# Altium footprint library 羽毛球团队.PcbLib: 75 footprints (part 2 of 5)
Each footprint in its own frame and in the unit in brackets; x right, y up, seen from the top. Pads: shape width x height; smd on the part's side, far side on the other; paste and mask are expansions set on the pad; w line width, h text height; cw(c..) or ccw(c..) is an arc to the next point about the centre after c.
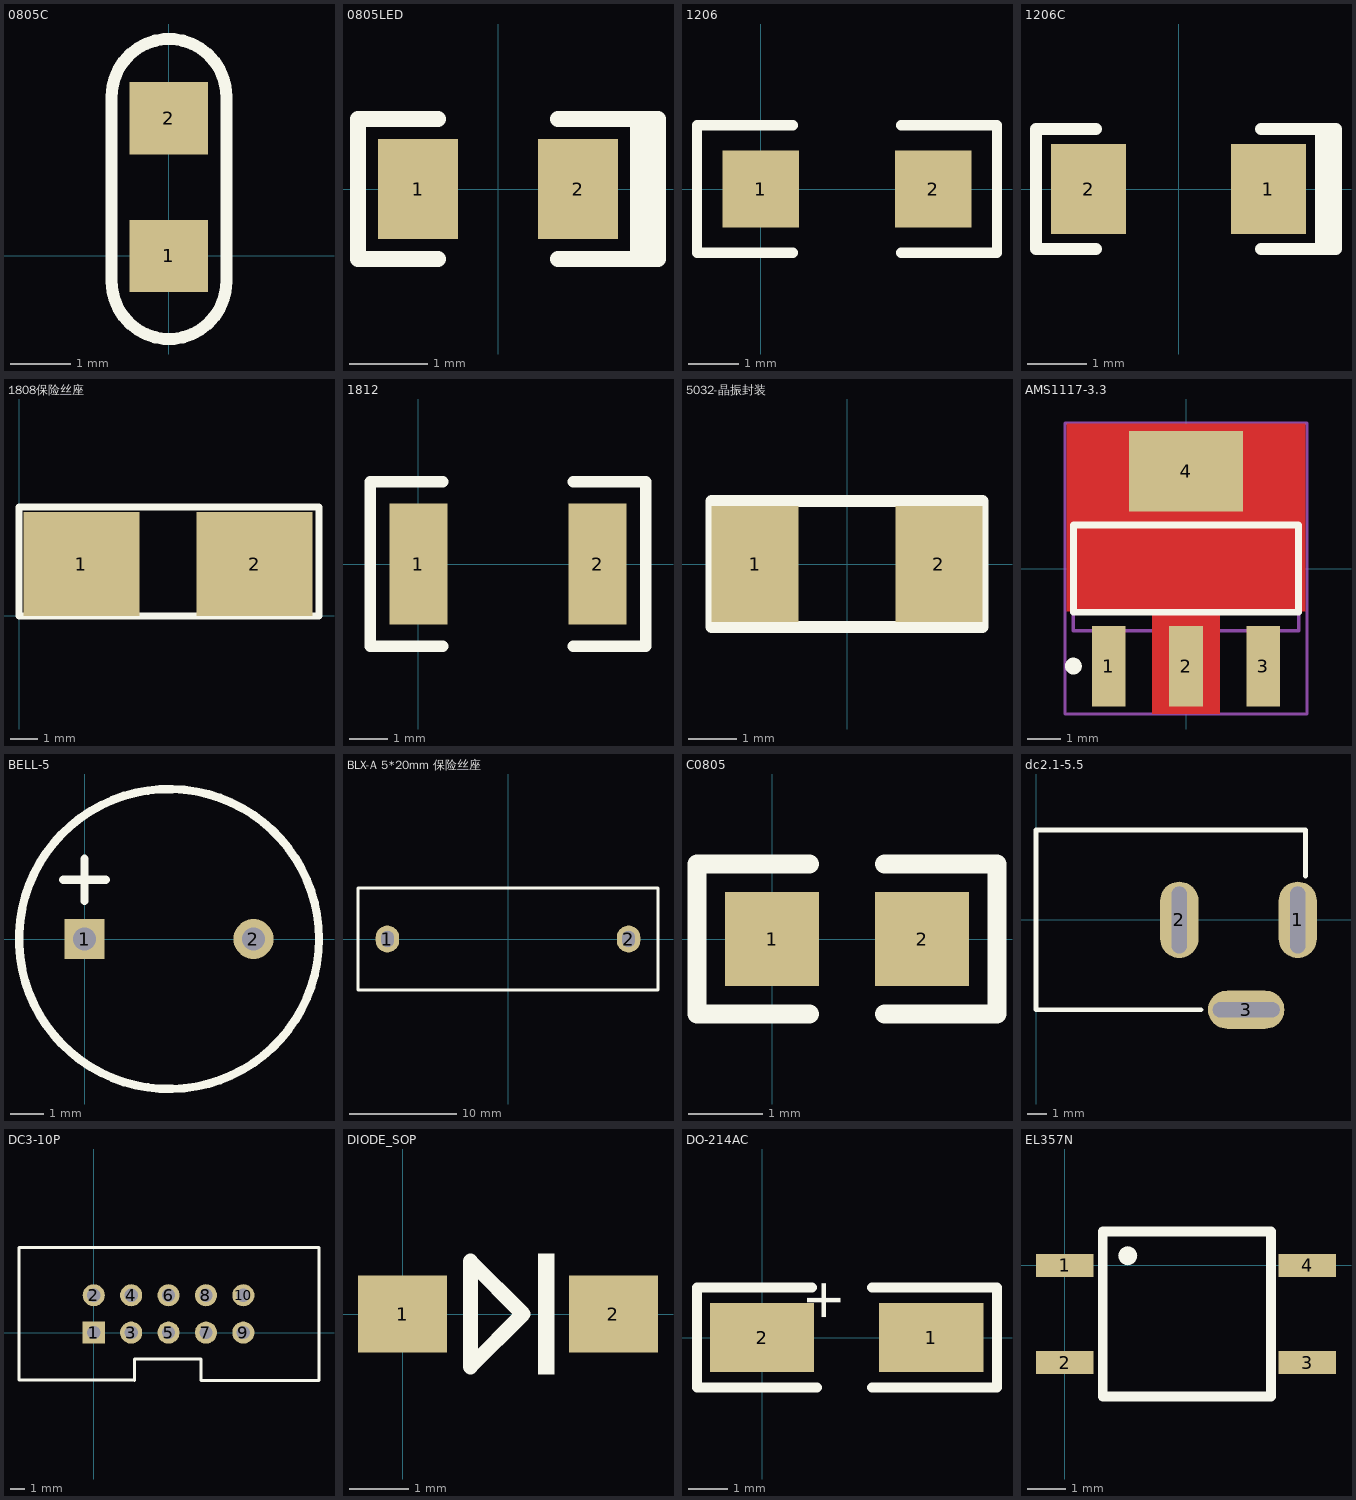
[diagram p1: the footprints below, top view; thin cyan lines are the x and y axes]

## 0805C [mm]
pads (2):
  rect 1.3x1.2 smd: 1(0.004,-0.004) 2(0.004,2.282)
Top Overlay:
  lines w0.2: -0.943,-0.432 ccw(c0.007,-0.432) 0.957,-0.432 0.957,2.643 ccw(c0.007,2.643) -0.943,2.643 -0.943,-0.432

## 0805LED [mil]
pads (2):
  rect 40x50 smd: 1(-40,0) 2(40,0)
Top Overlay:
  lines w7.87: -70,-35 -30,-35 ; -70,35 -30,35 ; 30,-35 80,-35 ; 30,35 80,35
  lines w8: -70,-35 -70,35 ; 70,-35 70,35 ; 75,-35 75,35 ; 80,-35 80,35

## 1206 [mil]
pads (2):
  rect 60x60 smd: 1(0,0) 2(135,0)
Top Overlay:
  lines w8: 25,-50 -50,-50 -50,50 25,50 ; 110,-50 185,-50 185,50 110,50

## 1206C [mil]
height 68.9
pads (2):
  rect 50x60 smd: 1(60,0) 2(-60,0)
Top Overlay:
  lines w7.87: -95,-40 -55,-40 ; -95,40 -55,40 ; 55,-40 105,-40 ; 55,40 105,40
  lines w8: -95,-40 -95,40 ; 95,-40 95,40 ; 100,-40 100,40 ; 105,-40 105,40

## 1808保险丝座 [mm]
pads (2):
  rect 4.25x3.82 smd: 1(2.286,1.905) 2(8.636,1.905)
Top Overlay:
  lines w0.254: 0,0 11,0 11,4 0,4 0,0

## 1812 [mil]
pads (2):
  rect 60x125 smd: 1(0,0) 2(185,0)
Top Overlay:
  lines w12: 25,-85 -50,-85 -50,85 25,85 ; 160,-85 235,-85 235,85 160,85

## 5032-晶振封装 [mm]
height 1.75
pads (2):
  rect 1.8x2.4 smd: 1(-1.9,0) 2(1.9,0)
Top Overlay:
  lines w0.254: -2.8,-1.3 -2.8,1.3 2.8,1.3 2.8,-1.3 -2.8,-1.3

## AMS1117-3.3 [mm]
pads (4):
  rect 1x2.4 smd: 1(-2.3,-2.9) 2(0,-2.9) 3(2.3,-2.9)
  rect 3.4x2.4 smd: 4(0,2.9)
Top Layer:
  rectangle: -1.016,-4.318 1.016,-1.27
  rectangle: -3.556,-1.27 3.556,4.318
Top Overlay:
  circle w0.25: c-3.35,-2.9 r0.125
  lines w0.2: -3.35,-1.3 -3.35,1.3 3.35,1.3 3.35,-1.3 -3.35,-1.3
Mechanical 13:
  lines w0.1: -3.35,-1.85 -3.35,1.85 3.35,1.85 3.35,-1.85 -3.35,-1.85
Mechanical 15:
  lines w0.1: -0.5,0 0.5,0 ; 0,-0.5 0,0.5 ; -3.6,-4.325 -3.6,4.325 3.6,4.325 3.6,-4.325 -3.6,-4.325
3D body: height 1.8, standoff 0.02, extent -3.35,-1.85 3.35,1.85

## BELL-5 [mm]
height 1.75
pads (2):
  rect 1.2x1.2 hole 0.7: 1(0,0)
  round 1.2 hole 0.7: 2(5.08,0)
Top Overlay:
  circle w0.254: c2.54,0 r4.51
  lines w0.254: -0.635,1.778 0.635,1.778 ; 0,1.143 0,2.413

## BLX-A 5*20mm 保险丝座 [mm]
height 1.75
pads (2):
  oval 2.2x2.5 hole 1.2 slot 1.5 at 90 deg: 1(-11.25,0) 2(11.25,0)
Top Overlay:
  lines w0.254: -14,-4.75 -14,4.75 14,4.75 14,-4.75 -14,-4.75

## C0805 [mil]
height 68.9
pads (2):
  rect 50x50 smd: 1(0,0) 2(80,0)
Top Overlay:
  lines w10: 20,-40 -40,-40 -40,40 20,40 ; 60,-40 120,-40 120,40 60,40
3D body "0805 SMD Capacitor.STEP": height 30.79, standoff 0, extent 0.63,-24.21 79.37,25

## dc2.1-5.5 [mm]
height 1.75
pads (3):
  oval 2x4 hole 0.8 slot 3.5 at 90 deg: 1(13.7,0) 2(7.5,0)
  oval 4x2 hole 0.8 slot 3.5 at 0 deg: 3(11,-4.7)
Top Overlay:
  lines w0.254: 8.637,-4.7 0,-4.7 0,4.7 14.1,4.7 14.1,2.289

## DC3-10P [mm]
pads (10):
  rect 1.5x1.5 hole 0.9: 1(0,0)
  round 1.5 hole 0.9: 2(0,2.54) 3(2.54,0) 4(2.54,2.54) 5(5.08,0) 6(5.08,2.54) 7(7.62,0) 8(7.62,2.54) 9(10.16,0) 10(10.16,2.54)
Top Overlay:
  lines w0.2: 2.77,-3.23 -5.08,-3.23 -5.08,5.77 15.3,5.77 15.3,-3.23 ; 2.78,-3.24 2.78,-1.79 7.28,-1.79 7.28,-3.24 15.29,-3.24

## DIODE_SOP [mm]
height 1.75
pads (2):
  rect 1.5x1.3 smd: 1(0,0) 2(3.556,0)
Top Overlay:
  rectangle: 2.286,-1.016 2.559,1.016
  lines w0.254: 1.143,-0.889 1.143,0.889 2.032,0 1.143,-0.889

## DO-214AC [mm]
pads (2):
  rect 2.65x1.75 smd: 1(4.3,0) 2(0,0)
Top Overlay:
  lines w0.254: 1.27,1.27 -1.651,1.27 -1.651,-1.27 1.397,-1.27 ; 2.794,-1.27 5.969,-1.27 5.969,1.27 2.794,1.27
  text "+" at 1.143,1.524 h1

## EL357N [mm]
pads (5):
  rect 1.5x0.6 smd: 1(0,0) 2(0,-2.54) 3(6.35,-2.54) 4(6.35,0)
  round 0.5 on Top Overlay: ""(1.651,0.254)
Top Overlay:
  lines w0.254: 1,-3.429 1,0.889 5.4,0.889 5.4,-3.429 1,-3.429